# Altium schematic symbol library Schematic_Lib_W20.SchLib: 1 symbol
Pins are listed as number, name and electrical type; pins without a type are passive.

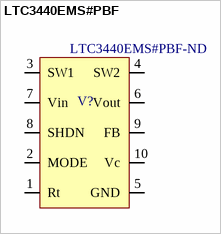
[diagram p0: symbol LTC3440EMS#PBF]

## LTC3440EMS#PBF
designator V?, comment Supplier Part Number 1: LTC3440EMS#PBF-ND  (hidden comment: 3.3V Reg)
IC REG BUCK BST ADJ 0.6A 10MSOP; Manufacturer 1: Analog Devices / Linear Technology; Manufacturer Part Number 1: LTC3440EMS#PBF; Efficiency: 96%; Min Input Voltage: 2.5V; Output Voltage: 5.5V; Output Current: 600mA; Switching Frequency: 2MHz; Number of Outputs: 1; Synchronous Rectifier: Yes; Output Type: Adjustable; Topology: Buck-Boost; Supplier 1: Digi-Key; Stock 1: 1395; Pricing 1: 1=6.63000, 25=4.40240, 100=3.64000 (USD); RoHS: Yes; Case/Package: MSOP; Number of Pins: 10; Min Operating Temperature: -40°C; Max Operating Temperature: 85°C; Package Quantity: 50; Packaging: Rail/Tube; Max Input Voltage: 5.5V; Min Output Voltage: 2.5V; Max Output Voltage: 5.5V; Max Output Current: 600mA; Length: 3mm; Height: 0.86mm; Width: 3mm; Lead Free: Lead Free; REACH SVHC: No SVHC; ComponentLink1URL: https://datasheet.ciiva.com/6188/1692462-6188146.pdf?src-supplier=Farnell; ComponentLink1Description: https://datasheet.ciiva.com/6188/1692462-6188146.pdf?src-supplier=Farnell; ComponentLink2URL: https://datasheet.ciiva.com/14152/edlinear-dc-dc-wandler-ltc3440-en-14152963.pdf?src-supplier=Distrelec; ComponentLink2Description: https://datasheet.ciiva.com/14152/edlinear-dc-dc-wandler-ltc3440-en-14152963.pdf?src-supplier=Distrelec; ComponentLink3URL: https://datasheet.ciiva.com/27053/1757881-27053447.pdf?src-supplier=Jameco; ComponentLink3Description: https://datasheet.ciiva.com/27053/1757881-27053447.pdf?src-supplier=Jameco; ComponentLink4URL: https://datasheet.ciiva.com/26899/ltc3440ems-pbf-26899113.pdf?src-supplier=IIIC; ComponentLink4Description: https://datasheet.ciiva.com/26899/ltc3440ems-pbf-26899113.pdf?src-supplier=IIIC; ComponentLink5URL: https://datasheet.ciiva.com/2024/3314-2024862.pdf?src-supplier=Digi-Key; ComponentLink5Description: https://datasheet.ciiva.com/2024/3314-2024862.pdf?src-supplier=Digi-Key
pins: 1 Rt, 2 MODE, 3 SW1, 4 SW2, 5 GND, 6 Vout, 7 Vin (power), 8 SHDN, 9 FB, 10 Vc